# Altium schematic symbol library Diode_LED_Components.SchLib: 9 symbols
Pins are listed as number, name and electrical type; pins without a type are passive.

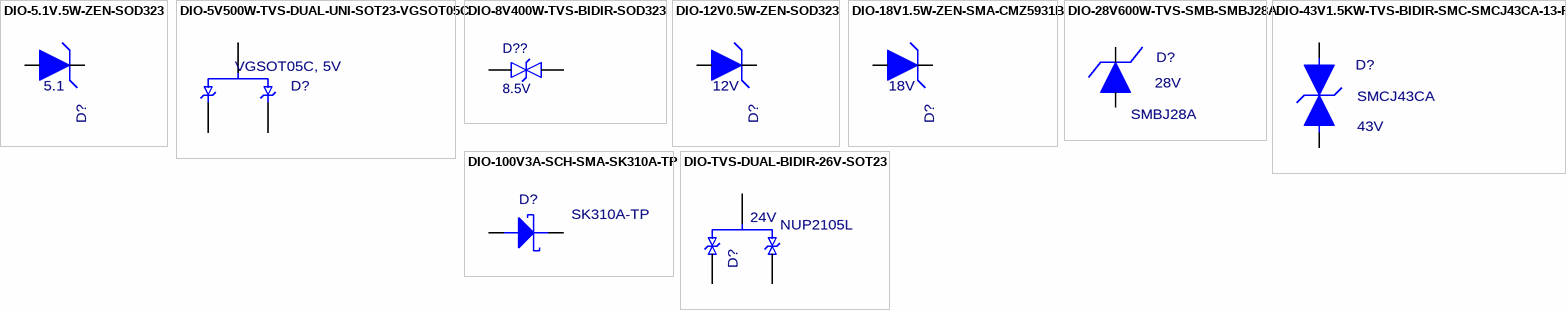
[diagram p0: symbols DIO-5.1V.5W-ZEN-SOD323 to DIO-TVS-DUAL-BIDIR-26V-SOT23]

## DIO-5.1V.5W-ZEN-SOD323
designator D?  value 5.1  (hidden comment: DIO-5.1V.5W-ZEN-SOD323)
Diode, Zener, 5.1V, 0.5W, SOD123; MFG: onsemi; MFGPN: MMSZ5V1T1G; Tolerance: 5%; Temp: 150C; Geometry.height: 0.043"; Wattage: 0.5W
footprint SOD123 (Chip Diode, 2-Leads, SOD123)
pins: 1, 2

## DIO-5V500W-TVS-DUAL-UNI-SOT23-VGSOT05C
designator D?  value VGSOT05C, 5V  (hidden comment: DIO-5V500W-TVS-DUAL-UNI-SOT23-VGSOT05C)
Diode, TVS, Dual, 5Vstd, 6Vbr, 500W, SOT-23; Voltage: 5V; MFGPN: VGSOT05C-G3-08; MFG: Vishay; Notes: 36A (8/20us); Temp: 150C; Geometry.height: 0.041"
footprint SOT-23
pins: 1, 2, 3

## DIO-8V400W-TVS-BIDIR-SOD323
designator D??, comment 8.5V
Diode, TVS, Bidirectiona;l, 8Vstd, 8.5Vbr, 400W, SOD323, -55-150C; Manufacturer: STMicroelectronics; Manufacturer Part Number: ESDA25P35-1U1M; Peak Inverse Voltage: 23.3V; Max Surge Current: 35A; Mounting Technology: SMT; Case/Package: QFN1610 (0603); RoHS Compliant: Yes; Pins: 2; Component Type: Diodes
footprint SOD323
pins: 1 A, 2 A

## DIO-12V0.5W-ZEN-SOD323
designator D?  value 12V  (hidden comment: DIO-12V0.5W-ZEN-SOD323)
Diode, Zener, 12V, 0.5W, SOD123; MFG: onsemi; MFGPN: MMSZ12T1G; Tolerance: 5%; Temp: 150C; Geometry.height: 0.043"; Wattage: 0.5W
footprint SOD123 (Chip Diode, 2-Leads, SOD123)
pins: 1, 2

## DIO-18V1.5W-ZEN-SMA-CMZ5931B
designator D?  value 18V  (hidden comment: DIO-18V1.5W-ZEN-SMA-CMZ5931B)
Diode, Zener, 18V, 1.5W, SMA; Checked: JER 12-1-16; MFG: Central Semiconductor; MFGPN: CMZ5931B TR13; QPN: 121-108022-1800; Tolerance: 5%; Temp: 150C; Geometry.height: 0.103"; Wattage: 1.5W
footprint SMA_D (SMA Diode)
pins: 1, 2

## DIO-28V600W-TVS-SMB-SMBJ28A
designator D?  value SMBJ28A  Voltage: 28V  (hidden comment: DIO-28V600W-TVS-SMB-SMBJ28A)
Diode, TVS, 28Vrwm, 31.10Vbr min, 600W, SMB; MFG: SMC Diode Solutions; QPN: 121-008162-2800; Notes: VBRK MIN 31.10V; CLAMP 45.4V; Temp: 150C; MFGPN: SMBJ28A; Wattage: 600W
footprint SMB_D
pins: 1, 2

## DIO-43V1.5KW-TVS-BIDIR-SMC-SMCJ43CA-13-F
designator D?  value SMCJ43CA  Voltage: 43V  (hidden comment: DIO-43V1.5KW-TVS-BIDIR-SMC-SMCJ43CA-13-F)
Diode, TVS, BIDIR, 43V, 47.8VBRK, 1500W, SMC; QPN: 121-008372-4300; MFG: Diodes Inc; Geometry.Height: 0.103"; Checked: JER 7-18-14; Notes: Clamping voltage 69.4V; Temp: 150C; Wattage: 1500W; MFGPN: SMCJ43CA-13-F
footprint SMC_D_BIDIR
pins: 1, 2

## DIO-100V3A-SCH-SMA-SK310A-TP
designator D?  value SK310A-TP  (hidden comment: DIO-100V3A-SCH-SMA-SK310A-TP)
Diode, Schottky, 100V, 3A, SMA; Checked: JER 7-18-14; MFG: Micro Commercial; QPN: 120-008322-0310; Wattage: 2.55W; Temp: 125C; Geometry.height: 0.116"; Functional Block: 1; MFGPN: SK310A-TP; Voltage: 100V
footprint SMA_D (SMA Diode)
pins: 1 K, 2 A

## DIO-TVS-DUAL-BIDIR-26V-SOT23
designator D?  value NUP2105L  Voltage: 24V  (hidden comment: DIO-TVS-DUAL-BIDIR-26V-SOT23)
DIODES TVS BIDIRECT SOT-23, 26V, 350W; MFGPN: NUP2105LT1G; MFG: OnSemi; QPN: 121-007162-2600; Temp: 150C; Wattage: 350W
footprint SOT-23
pins: 1, 2, 3